# Altium schematic symbol library LED_SYMBOLS.SchLib: 58 symbols (part 2 of 2)
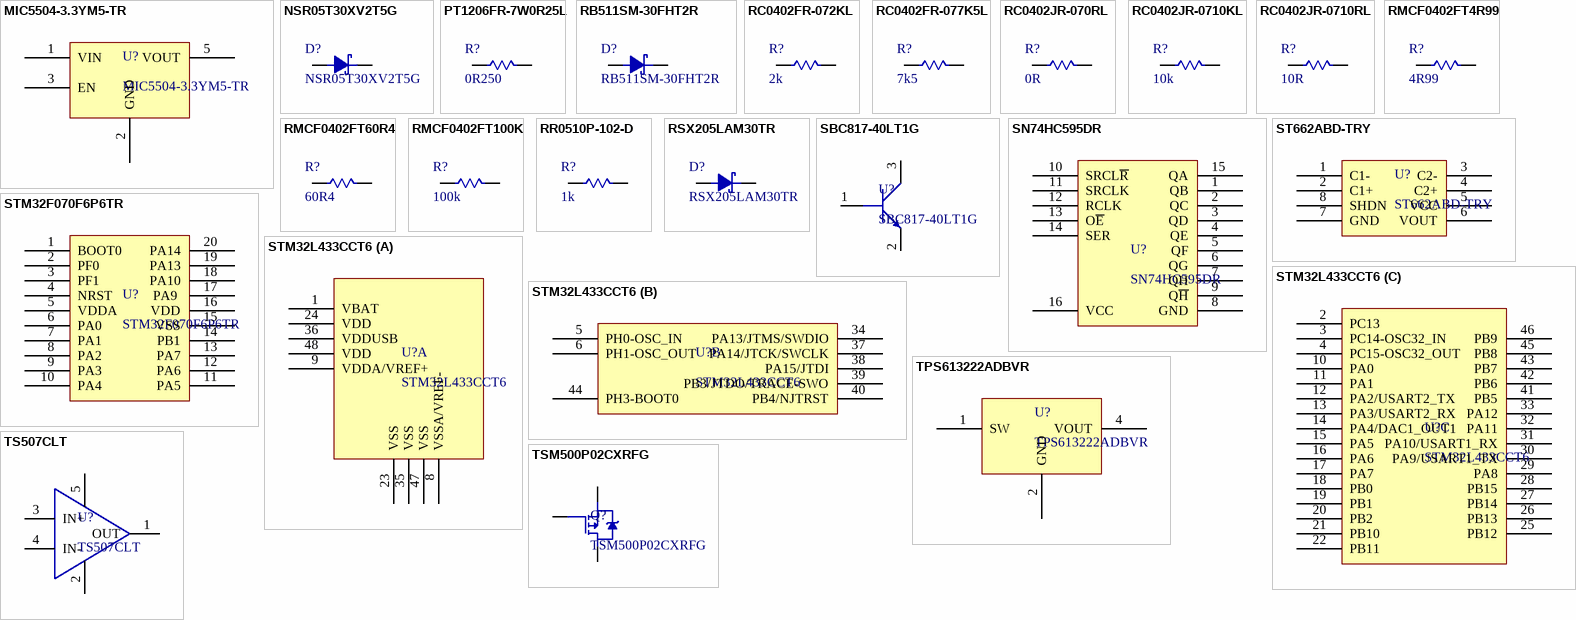
[diagram p2: symbols MIC5504-3.3YM5-TR to TSM500P02CXRFG]

## RC0402FR-077K5L
designator R?, comment 7k5
RES SMD 7.5K 0402 YAGEO - RC0402FR-077K5L - Surface Mount Thick Film Resistor, RC Series, 7.5 kohm, 63 mW, - 1%, 50 V, 0402 [1005 Metric] RoHS Compliant: Yes; Resistance: 7.5kR; Voltage Rating (DC): 50V; Power Rating: 63mW; Temperature Coefficient: 100ppm/°C; Supplier 1: Newark; Manufacturer: Yageo; Manufacturer Part Number: RC0402FR-077K5L; Stock 1: 4055; Pricing 1: 1=0.126, 25=0.016, 100=0.006, 250=0.005, 500=0.005, 1000=0.005, 1=0.09, 25=0.011, 100=0.004, 250=0.003, 500=0.003, 1000=0.003 (CAD); Case/Package: 0402; Case Code (Metric): 1005; Case Code (Imperial): 0402; Min Operating Temperature: -55°C; Max Operating Temperature: 155°C; Tolerance: 1%; Package Quantity: 1; Packaging: Tape and Reel; Features: Moisture Resistant; Voltage Rating: 50V; Composition: Thick Film; Number of Terminations: 2; Termination: SMD/SMT; Military Standard: Not; Max Power Dissipation: 63mW; Length: 1mm; Height: 0.016inch; Width: 0.02inch; Depth: 0.5mm; Lead Free: Lead Free; REACH SVHC: Unknown; ComponentLink1URL: http://www.yageo.com/documents/recent/PYu-RC_Group_51_RoHS_L_10.pdf?src-supplier=Digi-Key; ComponentLink1Description: http://www.yageo.com/documents/recent/PYu-RC_Group_51_RoHS_L_10.pdf?src-supplier=Digi-Key; ComponentLink2URL: http://www.mouser.com/ds/2/447/PYu-RC0402_51_RoHS_L_6_r-8721.pdf?src-supplier=Mouser; ComponentLink2Description: http://www.mouser.com/ds/2/447/PYu-RC0402_51_RoHS_L_6_r-8721.pdf?src-supplier=Mouser; ComponentLink3URL: https://www.verical.com/server-webapp/html/getDatasheet?partID=330684&src-supplier=Verical; ComponentLink3Description: https://www.verical.com/server-webapp/html/getDatasheet?partID=330684&src-supplier=Verical; ComponentLink4URL: http://www.farnell.com/datasheets/1018594.pdf?src-supplier=Element14; ComponentLink4Description: http://www.farnell.com/datasheets/1018594.pdf?src-supplier=Element14; ComponentLink5URL: http://www.farnell.com/datasheets/2167052.pdf?src-supplier=Element14; ComponentLink5Description: http://www.farnell.com/datasheets/2167052.pdf?src-supplier=Element14; ComponentLink6URL: http://www.yageo.com/documents/recent/PYu-RC0402_51_RoHS_L_6_r.pdf?src-supplier=Future+Electronics; ComponentLink6Description: http://www.yageo.com/documents/recent/PYu-RC0402_51_RoHS_L_6_r.pdf?src-supplier=Future+Electronics; Supplier Part Number 1: 67R9955
footprint R0402 (Chip Resistor, 2-Leads, Body 1.00x0.50mm, IPC Medium Density)
pins: 1, 2

## RC0402JR-070RL
designator R?, comment 0R
RES SMD 0 OHM 1/16W 0402; Manufacturer: Yageo; Manufacturer Part Number: RC0402JR-070RL; Resistance: 0mR; Power Rating: 62.5mW; Tolerance: 5%; Voltage Rating: 50V; Max Power Dissipation: 63mW; Temperature Coefficient: 200ppm/°C; Supplier 1: Digi-Key; Stock 1: 44333412; Pricing 1: 1=0.1, 10=0.017, 25=0.0124, 50=0.0096, 100=0.007, 250=0.0054, 500=0.0043, 1000=0.0032, 5000=0.0023 (USD); Case/Package: 0402; Contact Plating: Matte,Tin; Case Code (Metric): 1005; Case Code (Imperial): 0402; Min Operating Temperature: -55°C; Max Operating Temperature: 155°C; Packaging: Tape and Reel; Composition: Thick Film; Package Quantity: 1; Number of Terminations: 2; Termination: SMD/SMT; Military Standard: Not; Features: Moisture Resistant; Length: 1mm; Height: 0.016inch; Width: 0.02inch; Depth: 0.5mm; Radiation Hardening: No; REACH SVHC: Unknown; Lead Free: Lead Free; Supplier Part Number 1: 311-0.0JRCT-ND
footprint R0402 (Chip Resistor, 2-Leads, Body 1.00x0.50mm, IPC Medium Density)
pins: 1, 2

## RC0402JR-0710KL
designator R?, comment 10k
RES SMD 10K OHM 5% 1/16W 0402; Manufacturer: Yageo; Manufacturer Part Number: RC0402JR-0710KL; Resistance: 10kR; Power Rating: 62.5mW; Voltage Rating: 50V; Temperature Coefficient: 100ppm/°C; Max Power Dissipation: 63mW; Supplier 1: Digi-Key; Stock 1: 47303622; Pricing 1: 1=0.1, 10=0.018, 100=0.0073, 1000=0.0033, 2500=0.0029, 5000=0.0024 (USD); Case/Package: 0402; Case Code (Metric): 1005; Case Code (Imperial): 0402; Min Operating Temperature: -55°C; Max Operating Temperature: 155°C; Packaging: Tape and Reel; Tolerance: 5%; Package Quantity: 1; Composition: Thick Film; Number of Terminations: 2; Termination: SMD/SMT; Military Standard: Not; Features: Moisture Resistant; Length: 1mm; Height: 0.016inch; Width: 0.02inch; Depth: 0.5mm; REACH SVHC: Unknown; Lead Free: Lead Free; Supplier Part Number 1: 311-10KJRCT-ND
footprint R0402 (Chip Resistor, 2-Leads, Body 1.00x0.50mm, IPC Medium Density)
pins: 1, 2

## RC0402JR-0710RL
designator R?, comment 10R
RES SMD 10 OHM 5% 1/16W 0402; Manufacturer: Yageo; Manufacturer Part Number: RC0402JR-0710RL; Power Rating: 63mW; Voltage Rating: 50V; Temperature Coefficient: 200ppm/°C; Supplier 1: Digi-Key; Stock 1: 2958453; Pricing 1: 1=0.1, 10=0.019, 100=0.0079, 1000=0.0036, 2500=0.0031, 5000=0.0026 (USD); Case/Package: 0402; Case Code (Imperial): 0402; Case Code (Metric): 1005; Min Operating Temperature: -55°C; Max Operating Temperature: 155°C; Resistance: 10R; Tolerance: 5%; Packaging: Tape and Reel; Termination: SMD/SMT; Composition: Thick Film; Military Standard: Not; Package Quantity: 1; Number of Terminations: 2; Max Power Dissipation: 63mW; Working Voltage: 50V; Features: Moisture Resistant; Length: 1mm; Height: 0.016inch; Depth: 0.5mm; Width: 0.02inch; REACH SVHC: Unknown; Lead Free: Lead Free; ComponentLink1URL: http://www.farnell.com/datasheets/1018594.pdf; ComponentLink1Description: http://www.farnell.com/datasheets/1018594.pdf; ComponentLink2URL: http://www.yageo.com/documents/recent/PYu-RC_Group_51_RoHS_L_10.pdf; ComponentLink2Description: http://www.yageo.com/documents/recent/PYu-RC_Group_51_RoHS_L_10.pdf; ComponentLink3URL: http://www.yageo.com/documents/recent/PYu-RC0402_51_RoHS_L_6_r.pdf; ComponentLink3Description: http://www.yageo.com/documents/recent/PYu-RC0402_51_RoHS_L_6_r.pdf; Supplier Part Number 1: 311-10JRCT-ND
footprint R0402 (Chip Resistor, 2-Leads, Body 1.00x0.50mm, IPC Medium Density)
pins: 1, 2

## RMCF0402FT4R99
designator R?, comment 4R99
RES SMD 4.99 OHM 0402; Manufacturer: Stackpole Electronics; Manufacturer Part Number: RMCF0402FT4R99; Resistance: 4.99R; Tolerance: 1%; Max Power Dissipation: 63mW; Temperature Coefficient: 200ppm/°C; Supplier 1: Digi-Key; Stock 1: 144934; Pricing 1: 1=0.1, 10=0.02, 100=0.0082, 1000=0.0037, 2500=0.0032, 5000=0.0026 (USD); Mount: Surface Mount; Case/Package: 0402; Case Code (Metric): 1005; Case Code (Imperial): 0402; Contact Plating: Tin,Matte; Min Operating Temperature: -55°C; Max Operating Temperature: 155°C; Packaging: Tape and Reel; Package Quantity: 1; Composition: Thick Film; Number of Terminations: 2; Features: Automotive AEC-Q200; Length: 0.039inch; Height: 0.016inch; Width: 0.02inch; Lead Free: Contains Lead; Supplier Part Number 1: RMCF0402FT4R99CT-ND
footprint R0402 (Chip Resistor, 2-Leads, Body 1.00x0.50mm, IPC Medium Density)
pins: 1, 2

## RMCF0402FT60R4
designator R?, comment 60R4
RES SMD 60.4 OHM 1% 1/16W 0402; Manufacturer: Stackpole Electronics; Manufacturer Part Number: RMCF0402FT60R4; Resistance: 60.4R; Max Power Dissipation: 63mW; Temperature Coefficient: 100ppm/°C; Supplier 1: Digi-Key; Stock 1: 28531; Pricing 1: 1=0.1, 10=0.015, 100=0.0061, 1000=0.0028, 2500=0.0024, 5000=0.002 (USD); Mount: Surface Mount; Case/Package: 0402; Case Code (Metric): 1005; Case Code (Imperial): 0402; Contact Plating: Tin,Matte; Min Operating Temperature: -55°C; Max Operating Temperature: 155°C; Packaging: Tape and Reel; Tolerance: 1%; Composition: Thick Film; Number of Terminations: 2; Features: Automotive AEC-Q200; Length: 0.039inch; Height: 0.016inch; Width: 0.02inch; Radiation Hardening: No; Lead Free: Lead Free; Supplier Part Number 1: RMCF0402FT60R4CT-ND
footprint R0402 (Chip Resistor, 2-Leads, Body 1.00x0.50mm, IPC Medium Density)
pins: 1, 2

## RMCF0402FT100K
designator R?, comment 100k
RES SMD 100K 0402; Manufacturer: Stackpole Electronics; Manufacturer Part Number: RMCF0402FT100K; Tolerance: 1%; Resistance: 100kR; Power Rating: 62.5mW; Temperature Coefficient: 100ppm/°C; Max Power Dissipation: 63mW; Supplier 1: Digi-Key; Stock 1: 796221; Pricing 1: 1=0.1, 10=0.015, 100=0.0061, 1000=0.0028, 2500=0.0024, 5000=0.002 (USD); Mount: Surface Mount; Case/Package: 0402; Case Code (Metric): 1005; Case Code (Imperial): 0402; Contact Plating: Tin,Matte; Min Operating Temperature: -55°C; Max Operating Temperature: 155°C; Packaging: Tape and Reel; Composition: Thick Film; Number of Terminations: 2; Military Standard: Not; Features: Automotive AEC-Q200; Length: 1mm; Height: 0.016inch; Width: 0.02inch; Depth: 0.5mm; Radiation Hardening: No; Lead Free: Lead Free; ComponentLink1URL: https://www.verical.com/server-webapp/html/getDatasheet?partID=482656&src-supplier=Verical; ComponentLink1Description: https://www.verical.com/server-webapp/html/getDatasheet?partID=482656&src-supplier=Verical; Supplier Part Number 1: RMCF0402FT100KCT-ND
footprint R0402 (Chip Resistor, 2-Leads, Body 1.00x0.50mm, IPC Medium Density)
pins: 1, 2

## RR0510P-102-D
designator R?, comment 1k
RES SMD 1K OHM 0.5% 1/16W 0402; Manufacturer: Susumu; Manufacturer Part Number: RR0510P-102-D; Resistance: 1kR; Power Rating: 63mW; Voltage Rating: 25V; Temperature Coefficient: 25ppm/°C; Supplier 1: Digi-Key; Stock 1: 721157; Pricing 1: 1=0.1, 10=0.074, 100=0.0285, 1000=0.0125, 2500=0.0108, 5000=0.0097 (USD); Case/Package: 0402; Number of Pins: 2; Case Code (Metric): 1005; Case Code (Imperial): 0402; Min Operating Temperature: -55°C; Max Operating Temperature: 125°C; Package Quantity: 1; Tolerance: 0.5%; Packaging: Tape and Reel; Composition: Thin Film; Number of Terminations: 2; Termination: SMD/SMT; Max Power Dissipation: 63mW; Voltage Rating (DC): 25V; Length: 0.039inch; Height: 0.016inch; Width: 0.02inch; REACH SVHC: Unknown; Lead Free: Lead Free; ComponentLink1URL: http://www.susumu.co.jp/common/pdf/n_catalog_partition05_en.pdf; ComponentLink1Description: http://www.susumu.co.jp/common/pdf/n_catalog_partition05_en.pdf; ComponentLink2URL: http://www.farnell.com/datasheets/1581132.pdf; ComponentLink2Description: http://www.farnell.com/datasheets/1581132.pdf; Supplier Part Number 1: RR05P1.0KDCT-ND
footprint R0402 (Chip Resistor, 2-Leads, Body 1.00x0.50mm, IPC Medium Density)
pins: 1, 2

## RSX205LAM30TR
designator D?
DIODE SCHOTTKY 2A 30V; Manufacturer: Rohm; Supplier 1: Digi-Key; Manufacturer Part Number: RSX205LAM30TR; Stock 1: 4124; Pricing 1: 1=0.35, 10=0.26, 100=0.147, 500=0.0974, 1000=0.0746 (USD); Mount: Surface Mount; Packaging: Tape and Reel; Max Reverse Voltage (DC): 30V; Average Rectified Current: 2A; Supplier Part Number 1: RSX205LAM30CT-ND
footprint SOD-128 (SODFL, 2-Leads, Body 2.50x4.71mm, IPC Medium Density)
pins: 1, 2

## SBC817-40LT1G
designator U?
TRANS NPN 45V 0.5A SOT-23; Manufacturer: ON Semiconductor; Max Power Dissipation: 300mW; Number of Elements: 1; Frequency: 100MHz; Max Collector Current: 500mA; Collector Base Voltage (VCBO): 50V; Emitter Base Voltage (VEBO): 5V; Collector Emitter Saturation Voltage: 700mV; Element Configuration: Single; Supplier 1: Digi-Key; Manufacturer Part Number: SBC817-40LT1G; Stock 1: 243523; Pricing 1: 1=0.28, 10=0.23, 100=0.122, 500=0.0803, 1000=0.0546 (USD); Case/Package: SOT-23-3; Number of Pins: 3; Min Operating Temperature: -55°C; Max Operating Temperature: 150°C; Collector Emitter Voltage (VCEO): 45V; Package Quantity: 1; Packaging: Tape and Reel; Transition Frequency: 100MHz; Polarity: NPN; Collector Emitter Breakdown Voltage: 45V; Max Breakdown Voltage: 45V; Power Dissipation: 300mW; Gain Bandwidth Product: 100MHz; Max Frequency: 100MHz; Length: 3.04mm; Height: 1.11mm; Width: 2.64mm; Radiation Hardening: No; REACH SVHC: No SVHC; Lead Free: Lead Free; Halogen Free: Halogen Free; ComponentLink1URL: http://www.mouser.com/ds/2/308/BC817-16LT1-D-104560.pdf?src-supplier=Mouser; ComponentLink1Description: http://www.mouser.com/ds/2/308/BC817-16LT1-D-104560.pdf?src-supplier=Mouser; ComponentLink2URL: http://www.onsemi.com/pub/Collateral/BC817-16LT1-D.PDF?src-supplier=Digi-Key; ComponentLink2Description: http://www.onsemi.com/pub/Collateral/BC817-16LT1-D.PDF?src-supplier=Digi-Key; Supplier Part Number 1: SBC817-40LT1GOSCT-ND
footprint SOT23-5_BJT (SOT23, 3-Leads, Body 2.92x2.37mm, Pitch 0.95mm, IPC Medium Density)
pins: 1, 2, 3

## SN74HC595DR
designator U?
IC SHIFT REGISTER      SN74HC595DR             Shift Register, HC Family, Serial to Parallel, 1 Element, SOIC, 16 Pins, 2 V, 6 V; Manufacturer: Texas Instruments; Direction: Unidirectional; Max Supply Voltage: 6V; Min Supply Voltage: 2V; Propagation Delay: 250ns; Number of Elements: 1; Operating Supply Voltage: 5V; Frequency: 42MHz; Number of Circuits: 4; Number of Bits: 8; Number of Output Lines: 10; Max Input Current: 1uA; Quiescent Current: 8uA; Supplier 1: Digi-Key; Manufacturer Part Number: SN74HC595DR; Stock 1: 26701; Pricing 1: 1=0.39, 10=0.338, 25=0.3152, 100=0.252, 250=0.234, 500=0.198, 1000=0.153 (USD); Mount: Surface Mount; Case/Package: SOIC; Number of Pins: 16; Weight: 0.004998oz; Contact Plating: Gold; Min Operating Temperature: -40°C; Max Operating Temperature: 85°C; Packaging: Tape and Reel; Package Quantity: 2500; Logic Function: Shift Register; Number of Bits per Element: 8; Turn-On Delay Time: 250ns; Termination: SMD/SMT; Length: 9.9mm; Height: 1.58mm; Width: 3.91mm; Radiation Hardening: No; REACH SVHC: No SVHC; Lead Free: Lead Free; ComponentLink1URL: http://www.ti.com/lit/ds/symlink/sn74hc595.pdf?src-supplier=Digi-Key; ComponentLink1Description: http://www.ti.com/lit/ds/symlink/sn74hc595.pdf?src-supplier=Digi-Key; ComponentLink2URL: http://www.farnell.com/datasheets/1831198.pdf?src-supplier=Element14; ComponentLink2Description: http://www.farnell.com/datasheets/1831198.pdf?src-supplier=Element14; ComponentLink3URL: http://www.farnell.com/datasheets/1886142.pdf?src-supplier=Element14; ComponentLink3Description: http://www.farnell.com/datasheets/1886142.pdf?src-supplier=Element14; ComponentLink4URL: https://www.verical.com/server-webapp/html/getDatasheet?partID=134875&src-supplier=Verical; ComponentLink4Description: https://www.verical.com/server-webapp/html/getDatasheet?partID=134875&src-supplier=Verical; ComponentLink5URL: http://www.farnell.com/datasheets/1905810.pdf?src-supplier=Element14; ComponentLink5Description: http://www.farnell.com/datasheets/1905810.pdf?src-supplier=Element14; ComponentLink6URL: http://www.ti.com/general/docs/lit/getliterature.tsp?genericPartNumber=SN54HC595-SP&&fileType=pdf&src-supplier=Avnet; ComponentLink6Description: http://www.ti.com/general/docs/lit/getliterature.tsp?genericPartNumber=SN54HC595-SP&&fileType=pdf&src-supplier=Avnet; ComponentLink7URL: http://www.jameco.com/Jameco/Products/ProdDS/916385.pdf?src-supplier=Jameco; ComponentLink7Description: http://www.jameco.com/Jameco/Products/ProdDS/916385.pdf?src-supplier=Jameco; ComponentLink8URL: http://www.farnell.com/datasheets/2020588.pdf?src-supplier=Element14; ComponentLink8Description: http://www.farnell.com/datasheets/2020588.pdf?src-supplier=Element14; ComponentLink9URL: http://datasheet.iiic.cc/texas_instruments/SN74HC595DR.pdf?src-supplier=IIIC; ComponentLink9Description: http://datasheet.iiic.cc/texas_instruments/SN74HC595DR.pdf?src-supplier=IIIC; Supplier Part Number 1: 296-14857-6-ND
footprint SOIC-16 (SOIC, 16-Leads, Body 9.90x3.90mm, Pitch 1.27mm, IPC Medium Density)
pins: 1 QB, 2 QC, 3 QD, 4 QE, 5 QF, 6 QG, 7 QH, 8 GND, 9 Q~{H}, 10 SRCL~{R}, 11 SRCLK, 12 RCLK, 13 O~{E}, 14 SER, 15 QA, 16 VCC

## ST662ABD-TRY
designator U?
IC REG SWTCHD CAP 12V 30MA 8SOIC; Manufacturer: STMicroelectronics; Switching Frequency: 400kHz; Output Voltage: 12.6V; Min Input Voltage: 4.5V; Nominal Supply Current: 100uA; Number of Outputs: 1; Max Input Voltage: 5.5V; Synchronous Rectifier: No; Topology: Boost; Output Type: Adjustable; Supplier 1: Digi-Key; Manufacturer Part Number: ST662ABD-TRY; Stock 1: 9981; Pricing 1: 1=1.03, 10=0.81, 100=0.684, 500=0.6361, 1000=0.6187 (USD); Mount: Surface Mount; Case/Package: SO; Number of Pins: 8; Min Operating Temperature: -40°C; Max Operating Temperature: 125°C; Output Current: 30mA; Packaging: Tape and Reel; Package Quantity: 1; ComponentLink1URL: http://www.st.com/content/ccc/resource/technical/document/datasheet/b3/9e/b7/9b/6d/f9/45/1e/CD00001164.pdf/files/CD00001164.pdf/jcr:content/translations/en.CD00001164.pdf?src-supplier=Digi-Key; ComponentLink1Description: http://www.st.com/content/ccc/resource/technical/document/datasheet/b3/9e/b7/9b/6d/f9/45/1e/CD00001164.pdf/files/CD00001164.pdf/jcr:content/translations/en.CD00001164.pdf?src-supplier=Digi-Key; ComponentLink2URL: http://www.mouser.com/ds/2/389/st662ab-974267.pdf?src-supplier=Mouser; ComponentLink2Description: http://www.mouser.com/ds/2/389/st662ab-974267.pdf?src-supplier=Mouser; Supplier Part Number 1: 497-10226-1-ND
footprint SOIC-8 (SOIC, 8-Leads, Body 4.90x3.90mm, Pitch 1.27mm, IPC Medium Density)
pins: 1 C1-, 2 C1+, 3 C2-, 4 C2+, 5 VCC, 6 VOUT, 7 GND, 8 SHDN

## STM32F070F6P6TR
designator U?
IC MCU 32BIT 32KB FLASH 20TSSOP; Manufacturer: STMicroelectronics; Interface: I2C,SPI,USB,UART,USART; Peripherals: POR,PWM,WDT,DMA; Core Architecture: ARM; Frequency: 48MHz; Number of I/Os: 15; Oscillator Type: Internal; Supplier 1: Digi-Key; Manufacturer Part Number: STM32F070F6P6TR; Stock 1: 6559; Pricing 1: 1=1.48, 10=1.324, 25=1.2568, 100=1.0322, 250=0.96492, 500=0.85272, 1000=0.6732 (USD); Case/Package: TSSOP; Number of Pins: 20; Min Operating Temperature: -40°C; Max Operating Temperature: 85°C; Memory Type: FLASH; Packaging: Tape and Reel; Memory Size: 32KB; ComponentLink1URL: http://www.farnell.com/datasheets/2281751.pdf?src-supplier=Newark; ComponentLink1Description: http://www.farnell.com/datasheets/2281751.pdf?src-supplier=Newark; ComponentLink2URL: http://www.st.com/content/ccc/resource/technical/document/datasheet/31/4f/10/5f/a5/32/46/42/DM00141386.pdf/files/DM00141386.pdf/jcr:content/translations/en.DM00141386.pdf?src-supplier=Digi-Key; ComponentLink2Description: http://www.st.com/content/ccc/resource/technical/document/datasheet/31/4f/10/5f/a5/32/46/42/DM00141386.pdf/files/DM00141386.pdf/jcr:content/translations/en.DM00141386.pdf?src-supplier=Digi-Key; ComponentLink3URL: http://www.farnell.com/datasheets/2281751.pdf?src-supplier=Farnell; ComponentLink3Description: http://www.farnell.com/datasheets/2281751.pdf?src-supplier=Farnell; Supplier Part Number 1: 497-17354-6-ND
footprint TSSOP-20 (TSOP, 20-Leads, Body 6.50x4.40mm, Pitch 0.65mm, IPC Medium Density)
pins: 1 BOOT0, 2 PF0, 3 PF1, 4 NRST, 5 VDDA, 6 PA0, 7 PA1, 8 PA2, 9 PA3, 10 PA4, 11 PA5, 12 PA6, 13 PA7, 14 PB1, 15 VSS, 16 VDD, 17 PA9 , 18 PA10, 19 PA13, 20 PA14

## STM32L433CCT6
designator U?
IC MCU 32-bit Ultra Low Power STM32L ARM Cortex-M4 RISC 256kB Flash 48-Pin LQFP ECOPACK2 Tray; Manufacturer: STMicroelectronics; Interface: I2C,SPI,USB,IrDA,MMC,SD,UART,USART; Peripherals: Brown-out Detect/Reset,PWM,WDT,DMA,LCD; Frequency: 80MHz; Number of I/Os: 38; Oscillator Type: Internal; Supplier 1: Digi-Key; Manufacturer Part Number: STM32L433CCT6; Stock 1: 6382; Pricing 1: 1=5.85, 10=5.25, 100=4.3017, 500=3.66196, 1000=3.0884 (USD); Case/Package: LQFP; Min Operating Temperature: -40°C; Max Operating Temperature: 85°C; Memory Type: FLASH; Packaging: Tray; Core Architecture: ARM; Memory Size: 256KB; Supplier Part Number 1: 497-16579-ND
footprint LQFP-48 (TSQFP, 48-Leads, Body 7.00x7.00mm, Pitch 0.50mm, IPC Medium Density)
part A pins: 1 VBAT, 8 VSSA/VREF-, 9 VDDA/VREF+, 23 VSS, 24 VDD, 35 VSS, 36 VDDUSB, 47 VSS, 48 VDD
part B pins: 5 PH0-OSC_IN, 6 PH1-OSC_OUT, 34 PA13/JTMS/SWDIO, 37 PA14/JTCK/SWCLK, 38 PA15/JTDI, 39 PB3/JTDO/TRACE-SWO, 40 PB4/NJTRST, 44 PH3-BOOT0
part C pins: 2 PC13, 3 PC14-OSC32_IN, 4 PC15-OSC32_OUT, 10 PA0, 11 PA1, 12 PA2/USART2_TX, 13 PA3/USART2_RX, 14 PA4/DAC1_OUT1, 15 PA5, 16 PA6, 17 PA7, 18 PB0, 19 PB1, 20 PB2, 21 PB10, 22 PB11, 25 PB12, 26 PB13, 27 PB14, 28 PB15, 29 PA8, 30 PA9/USART1_TX, 31 PA10/USART1_RX, 32 PA11, 33 PA12, 41 PB5, 42 PB6, 43 PB7, 45 PB8, 46 PB9

## TPS613222ADBVR
designator U?
IC DCDC BOOST CONVERTER 5V OUTPUT 2.5A; Manufacturer: Texas Instruments; Output Type: Fixed; Output Configuration: Positive; Number of Outputs: 1; Min Input Voltage: 900mV; Max Input Voltage: 5.5V; Switching Frequency: 2MHz; Synchronous Rectifier: Yes; Supplier 1: Digi-Key; Manufacturer Part Number: TPS613222ADBVR; Stock 1: 2444; Pricing 1: 1=0.84, 10=0.747, 100=0.5828, 500=0.4814, 1000=0.3801 (USD); Mount: Surface Mount; Case/Package: SOT-23-5; Min Operating Temperature: -40°C; Max Operating Temperature: 85°C; Topology: Boost; Packaging: Tape and Reel; Min Output Voltage: 5V; Output Current: 2.5A; ComponentLink1URL: http://www.ti.com/lit/gpn/tps61322?src-supplier=Digi-Key; ComponentLink1Description: http://www.ti.com/lit/gpn/tps61322?src-supplier=Digi-Key; Supplier Part Number 1: 296-50503-1-ND
footprint SOT23-5_TPS61233 (SOT23, 5-Leads, Body 2.90x2.80mm, Pitch 0.95mm, IPC Medium Density)
pins: 1 SW, 2 GND, 4 VOUT

## TS507CLT
designator U?
IC OPAMP GP 1.9MHZ RRO SOT23-5; Manufacturer: STMicroelectronics; Max Input Voltage: 5.5V; Common Mode Rejection Ratio: 94dB; Nominal Supply Current: 1.15mA; Min Supply Voltage: 2.7V; Number of Channels: 1; Voltage Gain: 131dB; Slew Rate: 0.6V/µs; Input Bias Current: 8nA; Input Offset Voltage (Vos): 25uV; Operating Supply Current: 850uA; Output Current per Channel: 128mA; Power Supply Rejection Ratio (PSRR): 91dB; Supply Type: Single; Supplier 1: Digi-Key; Manufacturer Part Number: TS507CLT; Stock 1: 17588; Pricing 1: 1=0.95, 10=0.849, 100=0.6619, 500=0.5468, 1000=0.4317 (USD); Mount: Surface Mount; Case/Package: SOT-23-5; Number of Pins: 5; Min Operating Temperature: 0°C; Max Operating Temperature: 85°C; Max Supply Voltage: 5.5V; Packaging: Tape and Reel; Package Quantity: 3000; Unity Gain Bandwidth Product: 1.9MHz; Number of Circuits: 1; Gain Bandwidth Product: 1.9MHz; Number of Elements: 1; Lead Free: Lead Free; ComponentLink1URL: http://www.st.com/content/ccc/resource/technical/document/datasheet/de/20/f2/58/ee/d8/43/5b/CD00045727.pdf/files/CD00045727.pdf/jcr:content/translations/en.CD00045727.pdf?src-supplier=Digi-Key; ComponentLink1Description: http://www.st.com/content/ccc/resource/technical/document/datasheet/de/20/f2/58/ee/d8/43/5b/CD00045727.pdf/files/CD00045727.pdf/jcr:content/translations/en.CD00045727.pdf?src-supplier=Digi-Key; ComponentLink2URL: http://www.mouser.com/ds/2/389/ts507-957331.pdf?src-supplier=Mouser; ComponentLink2Description: http://www.mouser.com/ds/2/389/ts507-957331.pdf?src-supplier=Mouser; ComponentLink3URL: http://www.st.com/web/en/resource/technical/document/datasheet/CD00045727.pdf?src-supplier=Future+Electronics; ComponentLink3Description: http://www.st.com/web/en/resource/technical/document/datasheet/CD00045727.pdf?src-supplier=Future+Electronics; ComponentLink4URL: http://www.produktinfo.conrad.com/datenblaetter/1100000-1199999/001185717-da-01-en-IC_OP_AMP_R_R_HI_P_TS507CLT_SOT_23_5_STM.pdf?src-supplier=Conrad; ComponentLink4Description: http://www.produktinfo.conrad.com/datenblaetter/1100000-1199999/001185717-da-01-en-IC_OP_AMP_R_R_HI_P_TS507CLT_SOT_23_5_STM.pdf?src-supplier=Conrad; Supplier Part Number 1: 497-6944-1-ND
footprint SOT23-5_TS507 (SOT23, 5-Leads, Body 2.90x2.80mm, Pitch 0.95mm, IPC Medium Density)
pins: 1 OUT, 2 V-, 3 IN+, 4 IN-, 5 V+

## TSM500P02CXRFG
designator Q?
MOSFET P-CH 20V 4.7A 1.56W Rds(ON)=50mOhm; Manufacturer: Taiwan Semiconductor; Rds On Max: 50mR; Input Capacitance: 850pF; Supplier 1: Digi-Key; Manufacturer Part Number: TSM500P02CXRFG; Stock 1: 9267; Pricing 1: 1=0.39, 10=0.309, 100=0.2123, 500=0.1456, 1000=0.1092 (USD); Mount: Surface Mount; Case/Package: SOT-23; Packaging: Tape and Reel; Drain to Source Voltage (Vdss): 20V; Continuous Drain Current (ID): 4.7A; Max Power Dissipation: 1.56W; Supplier Part Number 1: TSM500P02CXRFGCT-ND
footprint SOT23-3_PMOS (SOT23, 3-Leads, Body 2.90x2.90mm, Pitch 0.95mm, IPC Medium Density)
pins: 1, 2, 3